# Altium footprint library Altium LCOGT PCB LIB.PCBLIB: 329 footprints (part 8 of 21)
Each footprint in its own frame and in the unit in brackets; x right, y up, seen from the top. Pads: shape width x height; smd on the part's side, far side on the other; paste and mask are expansions set on the pad; w line width, h text height; cw(c..) or ccw(c..) is an arc to the next point about the centre after c.
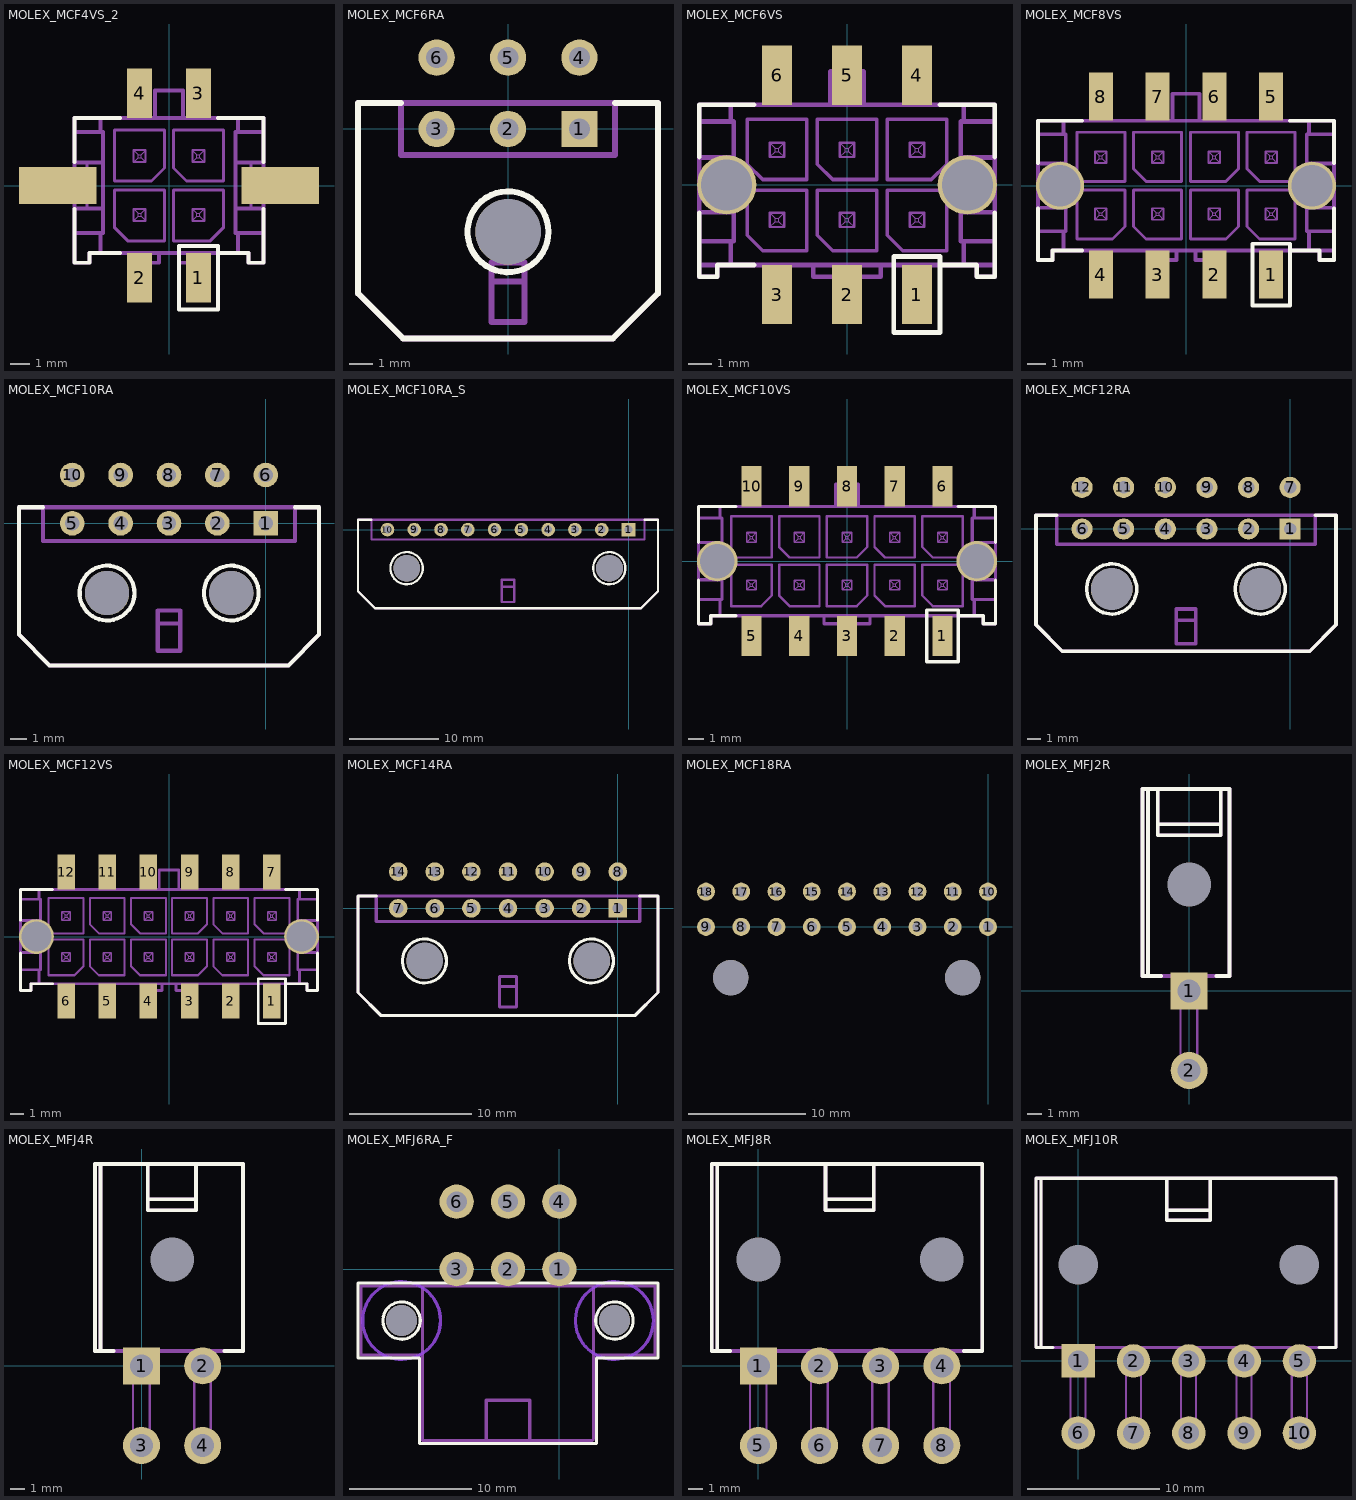
[diagram p7: the footprints below, top view; thin cyan lines are the x and y axes]

## MOLEX_MCF4VS_2 [mil]
pads (6):
  rect 50x100 smd: 1(59,-185) 2(-59,-185) 3(59,185) 4(-59,185)
  rect 156x75 smd: ""(-223,0) ""(223,0)
TopOverlay:
  lines w8: -190,-47 -190,-155 -160,-155 -160,-135 -98,-135 ; -190,47 -190,135 -98,135 ; 98,-135 160,-135 160,-155 190,-155 190,-47 ; 98,135 190,135 190,47 ; 20,-249 98,-249 98,-121 20,-121 20,-249
Mechanical3:
  lines w2: -71,-71 -62,-62 ; -71,-47 -62,-56 ; -71,47 -62,56 ; -71,71 -62,62 ; -47,-71 -56,-62 ; -47,-47 -56,-56 ; -47,47 -56,56 ; -47,71 -56,62 ; 47,-71 56,-62 ; 47,-47 56,-56 ; 47,47 56,56 ; 47,71 56,62 ; 71,-71 62,-62 ; 71,-47 62,-56 ; 71,47 62,56 ; 71,71 62,62 ; -62,-62 -62,-56 ; -62,-62 -56,-62 ; -62,-56 -56,-56 ; -62,56 -56,56 ; -62,56 -62,62 ; -62,62 -56,62 ; -56,-62 -56,-56 ; -56,56 -56,62 ; 56,-62 62,-62 ; 56,-62 56,-56 ; 56,-56 62,-56 ; 56,56 56,62 ; 56,56 62,56 ; 56,62 62,62 ; 62,-62 62,-56 ; 62,56 62,62
  lines w4: -71,-135 -71,-195 ; -71,135 -71,195 ; -47,-155 -47,-195 ; -47,135 -47,195 ; 47,-155 47,-195 ; 47,135 47,195 ; 71,-135 71,-195 ; 71,135 71,195 ; -71,-195 -62,-215 -56,-215 -47,-195 ; -71,-195 -47,-195 ; -71,195 -62,215 -56,215 -47,195 ; -71,195 -47,195 ; 47,-195 56,-215 62,-215 71,-195 ; 47,-195 71,-195 ; 47,195 56,215 62,215 71,195 ; 47,195 71,195 ; -71,-71 -71,-47 -47,-47 -47,-71 -71,-71 ; -71,47 -47,47 -47,71 -71,71 -71,47 ; 47,-71 71,-71 71,-47 47,-47 47,-71 ; 47,47 47,71 71,71 71,47 47,47
  lines w5: -191,-25 -271,-25 -271,25 -191,25 ; 191,-25 271,-25 271,25 191,25
  lines w6: -190,-23 -165,-23 ; -190,23 -165,23 ; -165,-46 -165,46 ; 165,-46 165,46 ; 165,-23 190,-23 ; 165,23 190,23 ; -109,-85 -83,-111 -9,-111 -9,-9 -109,-9 -109,-85 ; -109,9 -35,9 -9,35 -9,111 -109,111 -109,9 ; 9,-111 83,-111 109,-85 109,-9 9,-9 9,-111 ; 9,35 35,9 109,9 109,111 9,111 9,35
  lines w8: -190,-95 -137,-95 ; -190,-46 -132,-46 ; -190,46 -132,46 ; -190,107 -137,107 ; -137,-135 -137,-95 ; -137,135 -137,107 ; -57,-135 -57,-155 -20,-155 -20,-135 ; -28,135 -28,191 28,191 28,135 ; 20,-135 20,-155 57,-155 57,-135 ; 133,-46 190,-46 ; 133,46 190,46 ; 138,-135 138,-95 ; 138,135 138,107 ; 190,-95 138,-95 ; 190,107 138,107 ; -137,-95 -132,-95 -132,107 -137,107 ; 138,-95 133,-95 133,107 138,107 ; -190,-155 -190,135 190,135 190,-155 160,-155 160,-135 -160,-135 -160,-155 -190,-155

## MOLEX_MCF6RA [mil] "MICROFIT 43045-0600/0601/0602"
height 345
pads (7):
  rect 60x60 hole 35: 1(118.11,0)
  round 60 hole 35: 2(0.11,0) 3(-117.89,0) 4(118.11,118) 5(0.11,118) 6(-117.89,118)
  round 108.27 hole 108.27 unplated: ""(0.11,-170)
TopOverlay:
  circle w10: c0,-170 r66.93
  lines w10: -177.17,43.31 -248.03,43.31 -248.03,-271.65 -173.23,-346.46 173.23,-346.46 248.03,-271.65 248.03,43.31 177.17,43.31
Mechanical3:
  lines w10: -177.17,43.31 -177.17,-43.31 177.17,-43.31 177.17,43.31 ; -27.56,-251.97 27.56,-251.97 ; -248.03,-271.65 -248.03,43.31 0,43.31 248.03,43.31 248.03,-271.65 173.23,-346.46 0,-346.46 -173.23,-346.46 -248.03,-271.65 ; -27.56,-318.9 27.56,-318.9 27.56,-220.47 0,-220.47 -27.56,-220.47 -27.56,-318.9

## MOLEX_MCF6VS [mil]
pads (8):
  rect 50x100 smd: 1(118,-185) 2(0,-185) 3(-118,-185) 4(118,185) 5(0,185) 6(-118,185)
  round 100 hole 86: ""(-203,0) ""(203,0)
TopOverlay:
  lines w8: -249,-47 -249,-155 -219,-155 -219,-135 -157,-135 ; -249,47 -249,135 -157,135 ; 157,-135 219,-135 219,-155 249,-155 249,-47 ; 157,135 249,135 249,47 ; 79,-249 157,-249 157,-121 79,-121 79,-249
Mechanical3:
  drawing of 179 lines, arcs and shapes, not listed

## MOLEX_MCF8VS [mil]
pads (10):
  rect 50x100 smd: 1(177,-185) 2(59,-185) 3(-59,-185) 4(-177,-185) 5(177,185) 6(59,185) 7(-59,185) 8(-177,185)
  round 100 hole 86: ""(-262,0) ""(262,0)
TopOverlay:
  lines w8: -308,-47 -308,-155 -278,-155 -278,-135 -216,-135 ; -308,47 -308,135 -216,135 ; 216,-135 278,-135 278,-155 308,-155 308,-47 ; 216,135 308,135 308,47 ; 138,-249 138,-121 216,-121 216,-249 138,-249
Mechanical3:
  drawing of 224 lines, arcs and shapes, not listed

## MOLEX_MCF10RA [mil] "MICROFIT 43045-1000/1001/1002"
height 344.88
pads (12):
  rect 60x60 hole 35: 1(0,0)
  round 60 hole 35: 2(-118.11,0) 3(-236.22,0) 4(-354.33,0) 5(-472.44,0) 6(0,118.11) 7(-118.11,118.11) 8(-236.22,118.11) 9(-354.33,118.11) 10(-472.44,118.11)
  round 108.27 hole 108.27 unplated: ""(-387.4,-170.08) ""(-84.25,-170.08)
TopOverlay:
  circle w10: c-84.25,-170.08 r66.93
  circle w10: c-387.4,-170.08 r66.93
  lines w10: -543.31,39.37 -602.36,39.37 -602.36,-271.65 -527.56,-346.46 -409.45,-346.46 -62.99,-346.46 55.12,-346.46 129.92,-271.65 129.92,39.37 70.87,39.37
Mechanical3:
  lines w10: -543.31,39.37 -543.31,-43.31 70.87,-43.31 70.87,39.37 ; -263.78,-244.09 -208.66,-244.09 ; -602.36,-271.65 -602.36,39.37 129.92,39.37 129.92,-271.65 55.12,-346.46 -62.99,-346.46 -236.22,-346.46 -409.45,-346.46 -527.56,-346.46 -602.36,-271.65 ; -263.78,-311.02 -208.66,-311.02 -208.66,-212.6 -236.22,-212.6 -263.78,-212.6 -263.78,-311.02

## MOLEX_MCF10RA_S [mil]
height 345
pads (12):
  rect 60x60 hole 35: 1(0,0)
  round 60 hole 35: 2(-118.11,0) 3(-236.22,0) 4(-354.33,0) 5(-472.44,0) 6(-590.55,0) 7(-708.66,0) 8(-826.77,0) 9(-944.88,0) 10(-1062.99,0)
  round 118 hole 118 unplated: ""(-977.95,-170.08) ""(-84.25,-170.08)
TopOverlay:
  circle w10: c-978.44,-170 r71.06
  circle w10: c-85,-170 r71.06
  lines w10: -1133.86,43.31 -1192.91,43.31 -1192.91,-271.65 -1118.11,-346.46 -763.78,-346.46 55.12,-346.46 129.92,-271.65 129.92,43.31 70.87,43.31
Mechanical3:
  lines w10: -1133.86,43.31 -1133.86,-43.31 -779.53,-43.31 70.87,-43.31 70.87,43.31 ; -559.06,-251.97 -503.94,-251.97 ; -1192.91,-271.65 -1192.91,43.31 -838.58,43.31 129.92,43.31 129.92,-271.65 55.12,-346.46 -763.78,-346.46 -1118.11,-346.46 -1192.91,-271.65 ; -559.06,-318.9 -503.94,-318.9 -503.94,-220.47 -531.5,-220.47 -559.06,-220.47 -559.06,-318.9

## MOLEX_MCF10VS [mil]
pads (12):
  rect 50x100 smd: 1(236,-185) 2(118,-185) 3(0,-185) 4(-118,-185) 5(-236,-185) 6(236,185) 7(118,185) 8(0,185) 9(-118,185) 10(-236,185)
  round 100 hole 86: ""(-321,0) ""(321,0)
TopOverlay:
  lines w8: -367,-47 -367,-155 -337,-155 -337,-135 -275,-135 ; -367,47 -367,135 -275,135 ; 275,-135 337,-135 337,-155 367,-155 367,-47 ; 275,135 367,135 367,47 ; 197,-249 197,-121 275,-121 275,-249 197,-249
Mechanical3:
  drawing of 270 lines, arcs and shapes, not listed

## MOLEX_MCF12RA [mil] "MICROFIT 43045-1200/1201/1202"
height 345
pads (14):
  rect 60x60 hole 35: 1(0,0)
  round 60 hole 35: 2(-118,0) 3(-236,0) 4(-354,0) 5(-472,0) 6(-590,0) 7(0,118) 8(-118,118) 9(-236,118) 10(-354,118) 11(-472,118) 12(-590,118)
  round 118 hole 118 unplated: ""(-506,-170) ""(-85,-170)
TopOverlay:
  circle w10: c-506,-170 r71.06
  circle w10: c-85,-170 r71.06
  lines w10: -661.42,39.37 -720.47,39.37 -720.47,-271.65 -645.67,-346.46 55.12,-346.46 129.92,-271.65 129.92,39.37 70.87,39.37
Mechanical3:
  lines w10: -661.42,39.37 -661.42,-43.31 70.87,-43.31 70.87,39.37 ; -322.56,-258.28 -267.44,-258.28 ; -720.47,-271.65 -720.47,39.37 129.92,39.37 129.92,-271.65 55.12,-346.46 -645.67,-346.46 -720.47,-271.65 ; -322.56,-325.21 -267.44,-325.21 -267.44,-226.79 -295,-226.79 -322.56,-226.79 -322.56,-325.21

## MOLEX_MCF12VS [mil]
pads (14):
  rect 50x100 smd: 1(295,-185) 2(177,-185) 3(59,-185) 4(-59,-185) 5(-177,-185) 6(-295,-185) 7(295,185) 8(177,185) 9(59,185) 10(-59,185) 11(-177,185) 12(-295,185)
  round 100 hole 86: ""(-380,0) ""(380,0)
TopOverlay:
  lines w8: -426,-47 -426,-155 -396,-155 -396,-135 -334,-135 ; -426,47 -426,135 -334,135 ; 334,-135 396,-135 396,-155 426,-155 426,-47 ; 334,135 426,135 426,47 ; 256,-249 334,-249 334,-121 256,-121 256,-249
Mechanical3:
  drawing of 316 lines, arcs and shapes, not listed

## MOLEX_MCF14RA [mil] "MICROFIT 43045-1400/1401/1402"
height 345
pads (16):
  rect 60x60 hole 35: 1(0,0)
  round 60 hole 35: 2(-118.11,0) 3(-236.22,0) 4(-354.33,0) 5(-472.44,0) 6(-590.55,0) 7(-708.66,0) 8(0,118.11) 9(-118.11,118.11) 10(-236.22,118.11) 11(-354.33,118.11) 12(-472.44,118.11) 13(-590.55,118.11) 14(-708.66,118.11)
  round 118 hole 118 unplated: ""(-623.62,-170.08) ""(-84.25,-170.08)
TopOverlay:
  circle w10: c-85,-170 r71.06
  circle w10: c-624.11,-170 r71.06
  lines w10: -779.53,39.37 -838.58,39.37 -838.58,-271.65 -763.78,-346.46 55.12,-346.46 129.92,-271.65 129.92,39.37 70.87,39.37
Mechanical3:
  lines w10: -779.53,39.37 -779.53,-43.31 70.87,-43.31 70.87,39.37 ; -381.89,-251.97 -326.77,-251.97 ; -838.58,-271.65 -763.78,-346.46 55.12,-346.46 129.92,-271.65 129.92,39.37 -838.58,39.37 -838.58,-271.65 ; -381.89,-318.9 -381.89,-220.47 -354.33,-220.47 -326.77,-220.47 -326.77,-318.9 -381.89,-318.9

## MOLEX_MCF18RA [mil] "MICROFIT 43045-1800/1801/1802"
height 345
pads (20):
  round 60 hole 35: 1(0,0) 2(-118,0) 3(-236,0) 4(-354,0) 5(-472,0) 6(-590,0) 7(-708,0) 8(-826,0) 9(-944,0) 10(0,118) 11(-118,118) 12(-236,118) 13(-354,118) 14(-472,118) 15(-590,118) 16(-708,118) 17(-826,118) 18(-944,118)
  round 118 hole 118 unplated: ""(-861,-170) ""(-85,-170)

## MOLEX_MFJ2R [mil]
pads (3):
  rect 100x100 hole 62: 1(0,0)
  round 100 hole 62: 2(0,-215)
  round 30 hole 118 unplated: ""(0,287)
TopOverlay:
  lines w10: -111,40 -111,545 ; -85,450 85,450 ; -85,545 -85,420 85,420 85,545 ; -76,40 -126,40 -126,545 109,545 109,40 74,40
Mechanical3:
  lines w6: -23,40 -23,-237 22,-237 22,40
  lines w10: -111,40 -111,545 ; -85,450 85,450 ; -85,545 -85,420 85,420 85,545 ; -126,40 -126,545 109,545 109,40 -126,40

## MOLEX_MFJ4R [mil]
pads (5):
  rect 100x100 hole 62: 1(0,0)
  round 100 hole 62: 2(165,0) 3(0,-215) 4(165,-215)
  round 30 hole 118 unplated: ""(82.5,287)
TopOverlay:
  lines w10: -111,40 -111,545 ; -76,40 -126,40 -126,545 274,545 274,40 224,40 ; 17,450 147,450 ; 17,545 17,420 147,420 147,545
Mechanical3:
  lines w6: -23,40 -23,-237 22,-237 22,40 ; 142,40 142,-237 187,-237 187,40
  lines w10: -111,40 -111,545 ; 17,450 147,450 ; 17,545 17,420 147,420 147,545 ; -126,40 -126,545 274,545 274,40 -126,40

## MOLEX_MFJ6RA_F [mil] "Mini-Fit Jr., 6P, R/A, flanged, 39-29-X06X"
height 394
pads (8):
  round 110 hole 65: 1(0,0) 2(-165,0) 3(-330,0) 4(0,217) 5(-165,217) 6(-330,217)
  round 100 hole 100 unplated: ""(-507,-165) ""(177,-165)
BottomLayer keep-out:
  circle w10: c177,-165 r125
  circle w10: c-507,-165 r125
TopOverlay:
  circle w10: c177,-165 r60
  circle w10: c-507,-165 r60
  lines w10: -647,-286 -450,-286 -450,-560 120,-560 120,-286 317,-286 317,-44 -647,-44 -647,-286
Mechanical3:
  lines w10: -440,-276 -637,-276 -637,-54 -440,-54 ; -235,-550 -235,-421 -95,-421 -95,-550 ; 110,-276 307,-276 307,-54 110,-54 ; -440,-54 -440,-550 0,-550 106,-550 110,-546 110,-54 ; -440,-54 110,-54

## MOLEX_MFJ8R [mil]
pads (10):
  rect 100x100 hole 62: 1(0,0)
  round 100 hole 62: 2(165,0) 3(330,0) 4(495,0) 5(0,-215) 6(165,-215) 7(330,-215) 8(495,-215)
  round 30 hole 118 unplated: ""(0,287) ""(495,287)
TopOverlay:
  lines w10: -111,40 -111,545 ; -76,40 -126,40 -126,545 604,545 604,40 554,40 ; 181,450 311,450 ; 181,545 181,420 311,420 311,545
Mechanical3:
  lines w6: -23,40 -23,-237 22,-237 22,40 ; 142,40 142,-237 187,-237 187,40 ; 307,40 307,-237 352,-237 352,40 ; 472,40 472,-237 517,-237 517,40
  lines w10: -111,40 -111,545 ; 181,450 311,450 ; 181,545 181,420 311,420 311,545 ; -126,40 604,40 604,545 -126,545 -126,40

## MOLEX_MFJ10R [mil]
pads (12):
  rect 100x100 hole 62: 1(0,0)
  round 100 hole 62: 2(165,0) 3(330,0) 4(495,0) 5(660,0) 6(0,-215) 7(165,-215) 8(330,-215) 9(495,-215) 10(660,-215)
  round 30 hole 118 unplated: ""(0,287) ""(660,287)
TopOverlay:
  lines w10: -111,40 -111,545 ; -76,40 -126,40 -126,545 769,545 769,40 719,40 ; 264,450 394,450 ; 264,545 264,420 394,420 394,545
Mechanical3:
  lines w6: -23,40 -23,-237 22,-237 22,40 ; 142,40 142,-237 187,-237 187,40 ; 307,40 307,-237 352,-237 352,40 ; 472,40 472,-237 517,-237 517,40 ; 637,40 637,-237 682,-237 682,40
  lines w10: -111,40 -111,545 ; 264,450 394,450 ; 264,545 264,420 394,420 394,545 ; -126,40 769,40 769,545 -126,545 -126,40